# EAGLE library part MPU6050 (library MPU6050)
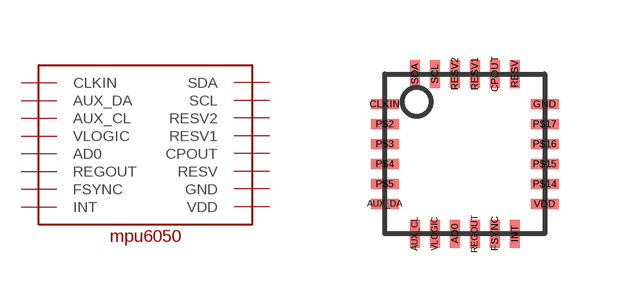
[diagram p0: symbol with the pads of MPU6050; footprint MPU6050]

Designator prefix -

## MPU6050  [MPU6050]
AD0  AD0
AUX_CL  AUX_CL
AUX_DA  AUX_DA
CLKIN  CLKIN
CPOUT  CPOUT
FSYNC  FSYNC
GND  GND
INT  INT
REGOUT  REGOUT
RESV  RESV
RESV1  RESV1
RESV2  RESV2
SCL  SCL
SDA  SDA
VDD  VDD
VLOGIC  VLOGIC

## Footprint MPU6050 (pad centres in mm)
smd 0.25 x 0.7: AD0 -0.25,-2; AUX_CL -1.25,-2; CPOUT 0.75,2; FSYNC 0.75,-2; INT 1.25,-2; REGOUT 0.25,-2; RESV 1.25,2; RESV1 0.25,2; RESV2 -0.25,2; SCL -0.75,2; SDA -1.25,2; VLOGIC -0.75,-2
smd 0.7 x 0.25: AUX_DA -2,-1.25; CLKIN -2,1.25; GND 2,1.25; P$2 -2,0.75; P$3 -2,0.25; P$4 -2,-0.25; P$5 -2,-0.75; P$14 2,-0.75; P$15 2,-0.25; P$16 2,0.25; P$17 2,0.75; VDD 2,-1.25